# EAGLE library part LIF-MD6000-6UMG64I (library LIF-MD6000-6UMG64I)
FPGA - Field Programmable Gate Array Crosslink Interface MIPI D-Phy Bridge Source: Datasheet <http://www.latticesemi.com/view_document?document_id=51662>
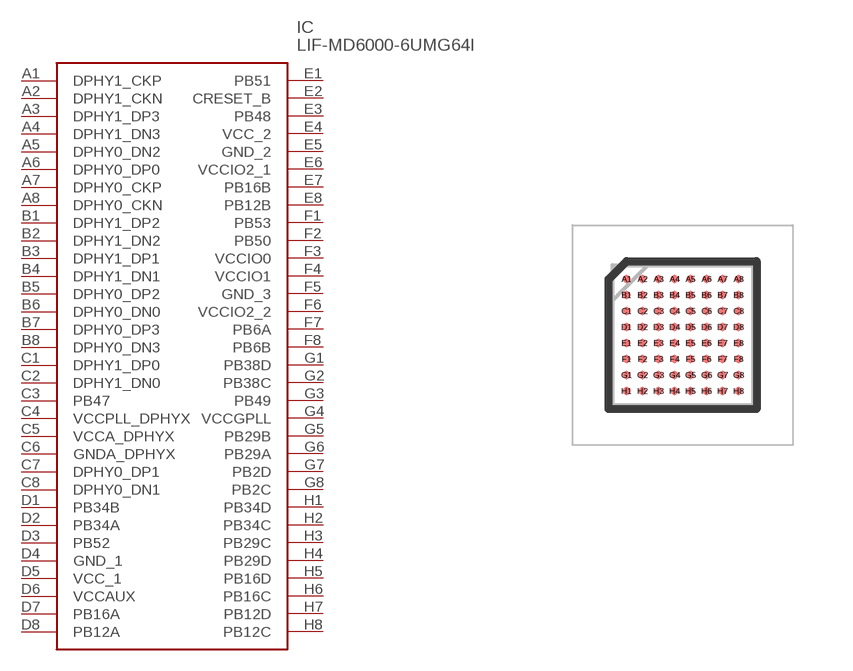
[diagram p0: symbol with the pads of BGA64C40P8X8_350X350X100; footprint BGA64C40P8X8_350X350X100]

Designator prefix IC

## LIF-MD6000-6UMG64I (Arrow_Part_Number: LIF-MD6000-6UMG64I; Arrow_Price-Stock: https://www.arrow.com/en/products/lif-md6000-6umg64i/lattice-semiconductor?region=nac; Description: FPGA - Field Programmable Gate Array Crosslink Interface MIPI D-Phy Bridge; Height: 1mm; Manufacturer_Name: Lattice Semiconductor; Manufacturer_Part_Number: LIF-MD6000-6UMG64I; Mouser_Part_Number: 842-LIFMD60006UMG64I; Mouser_Price-Stock: https://www.mouser.co.uk/ProductDetail/Lattice/LIF-MD6000-6UMG64I?qs=Rp3RbKSfAt276FxAu9y2mw%3D%3D)  [BGA64C40P8X8_350X350X100]
A1  DPHY1_CKP
A2  DPHY1_CKN
A3  DPHY1_DP3
A4  DPHY1_DN3
A5  DPHY0_DN2
A6  DPHY0_DP0
A7  DPHY0_CKP
A8  DPHY0_CKN
B1  DPHY1_DP2
B2  DPHY1_DN2
B3  DPHY1_DP1
B4  DPHY1_DN1
B5  DPHY0_DP2
B6  DPHY0_DN0
B7  DPHY0_DP3
B8  DPHY0_DN3
C1  DPHY1_DP0
C2  DPHY1_DN0
C3  PB47
C4  VCCPLL_DPHYX
C5  VCCA_DPHYX
C6  GNDA_DPHYX
C7  DPHY0_DP1
C8  DPHY0_DN1
D1  PB34B
D2  PB34A
D3  PB52
D4  GND_1
D5  VCC_1
D6  VCCAUX
D7  PB16A
D8  PB12A
E1  PB51
E2  CRESET_B
E3  PB48
E4  VCC_2
E5  GND_2
E6  VCCIO2_1
E7  PB16B
E8  PB12B
F1  PB53
F2  PB50
F3  VCCIO0
F4  VCCIO1
F5  GND_3
F6  VCCIO2_2
F7  PB6A
F8  PB6B
G1  PB38D
G2  PB38C
G3  PB49
G4  VCCGPLL
G5  PB29B
G6  PB29A
G7  PB2D
G8  PB2C
H1  PB34D
H2  PB34C
H3  PB29C
H4  PB29D
H5  PB16D
H6  PB16C
H7  PB12D
H8  PB12C

## Footprint BGA64C40P8X8_350X350X100 (pad centres in mm)
64-Ball ucfBGA Package-1
smd 0.2 x 0.2: A1 -1.4,1.4; A2 -1,1.4; A3 -0.6,1.4; A4 -0.2,1.4; A5 0.2,1.4; A6 0.6,1.4; A7 1,1.4; A8 1.4,1.4; B1 -1.4,1; B2 -1,1; B3 -0.6,1; B4 -0.2,1; B5 0.2,1; B6 0.6,1; B7 1,1; B8 1.4,1; C1 -1.4,0.6; C2 -1,0.6; C3 -0.6,0.6; C4 -0.2,0.6; C5 0.2,0.6; C6 0.6,0.6; C7 1,0.6; C8 1.4,0.6; D1 -1.4,0.2; D2 -1,0.2; D3 -0.6,0.2; D4 -0.2,0.2; D5 0.2,0.2; D6 0.6,0.2; D7 1,0.2; D8 1.4,0.2; E1 -1.4,-0.2; E2 -1,-0.2; E3 -0.6,-0.2; E4 -0.2,-0.2; E5 0.2,-0.2; E6 0.6,-0.2; E7 1,-0.2; E8 1.4,-0.2; F1 -1.4,-0.6; F2 -1,-0.6; F3 -0.6,-0.6; F4 -0.2,-0.6; F5 0.2,-0.6; F6 0.6,-0.6; F7 1,-0.6; F8 1.4,-0.6; G1 -1.4,-1; G2 -1,-1; G3 -0.6,-1; G4 -0.2,-1; G5 0.2,-1; G6 0.6,-1; G7 1,-1; G8 1.4,-1; H1 -1.4,-1.4; H2 -1,-1.4; H3 -0.6,-1.4; H4 -0.2,-1.4; H5 0.2,-1.4; H6 0.6,-1.4; H7 1,-1.4; H8 1.4,-1.4